# Altium footprint library PCB Footprints.PcbLib: 16 footprints
Each footprint in its own frame and in the unit in brackets; x right, y up, seen from the top. Pads: shape width x height; smd on the part's side, far side on the other; paste and mask are expansions set on the pad; w line width, h text height; cw(c..) or ccw(c..) is an arc to the next point about the centre after c.
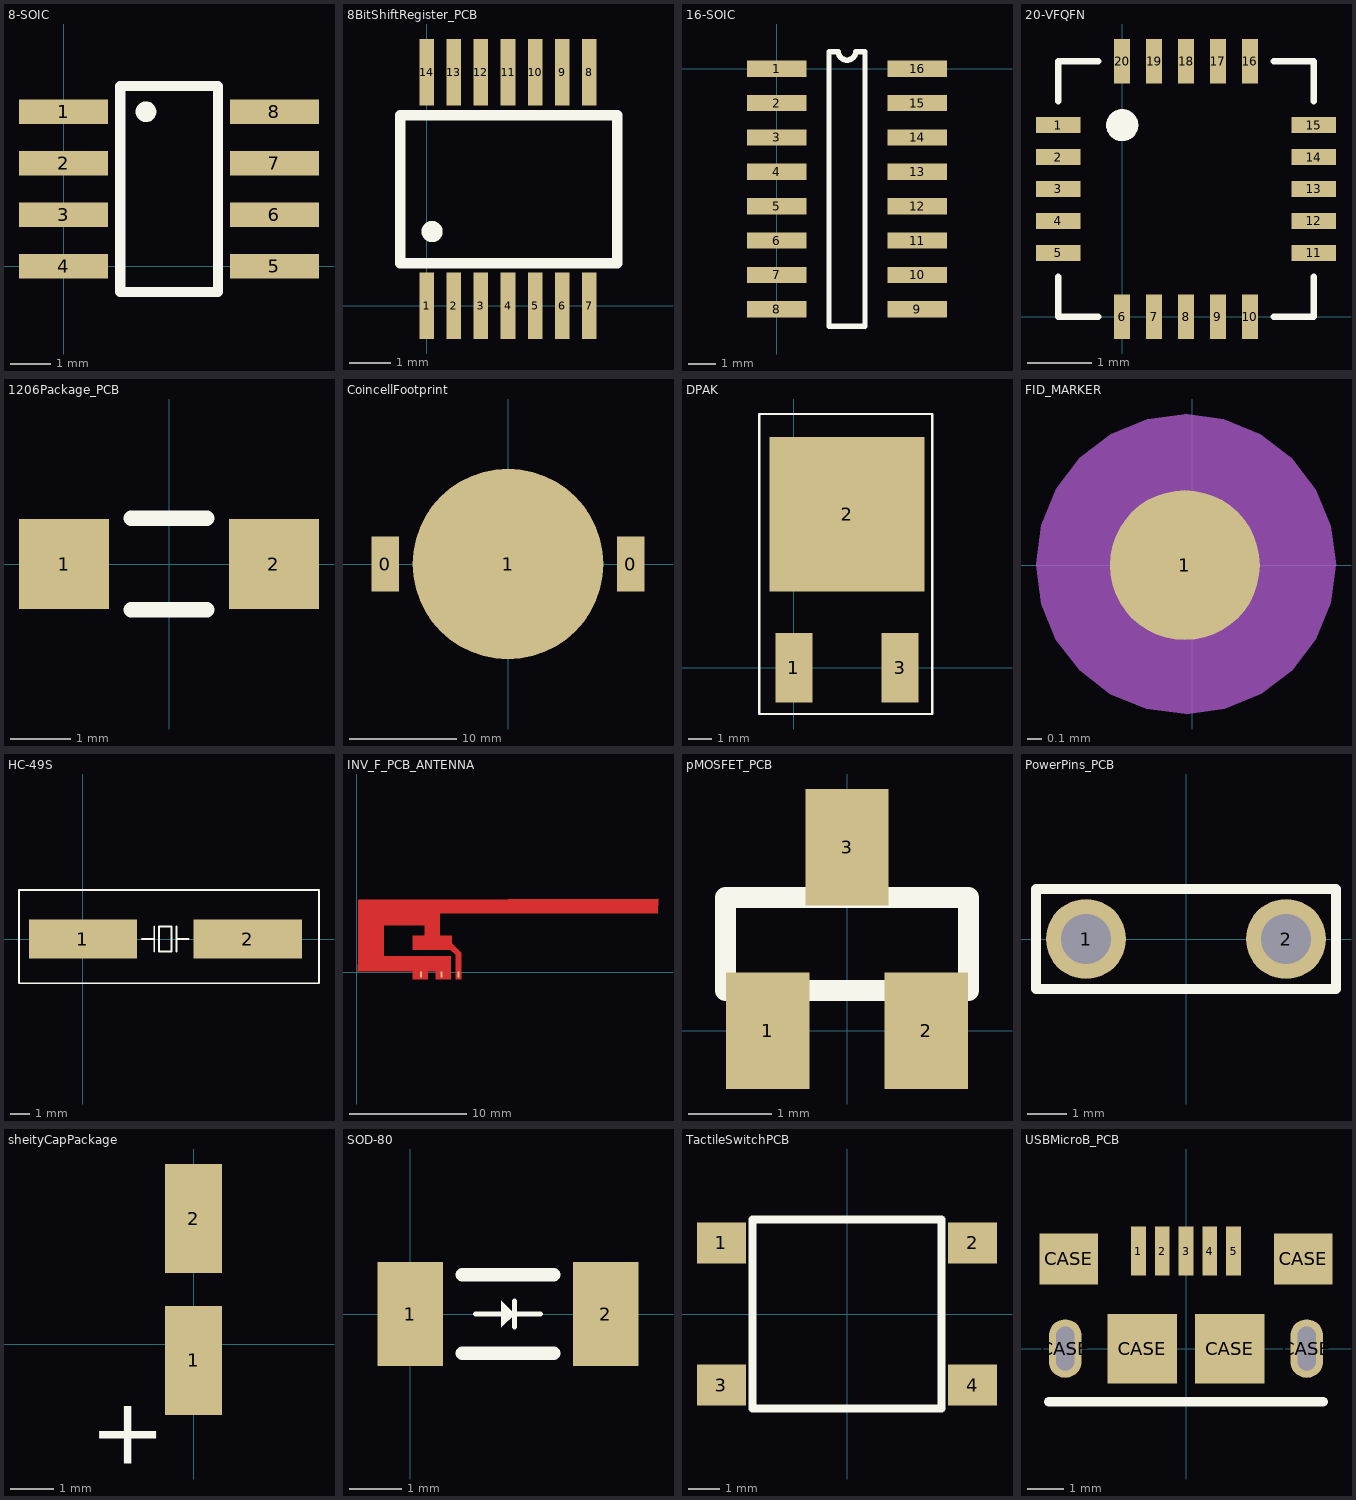
[diagram p0: the footprints below, top view; thin cyan lines are the x and y axes]

## 8-SOIC [mm]
pads (8):
  rect 2.2x0.6 smd: 1(0,3.81) 2(0,2.54) 3(0,1.27) 4(0,0) 5(5.2,0) 6(5.2,1.27) 7(5.2,2.54) 8(5.2,3.81)
Top Overlay:
  circle w0.254: c2.032,3.81 r0.127
  lines w0.254: 1.397,-0.635 1.397,4.445 3.81,4.445 3.81,-0.635 1.397,-0.635

## 8BitShiftRegister_PCB [mm]
pads (14):
  rect 0.35x1.6 smd: 1(0,0) 2(0.65,0) 3(1.3,0) 4(1.95,0) 5(2.6,0) 6(3.25,0) 7(3.9,0) 8(3.9,5.6) 9(3.25,5.6) 10(2.6,5.6) 11(1.95,5.6) 12(1.3,5.6) 13(0.65,5.6) 14(0,5.6)
Top Overlay:
  circle w0.254: c0.127,1.778 r0.127
  lines w0.254: -0.635,1.016 -0.635,4.572 4.572,4.572 4.572,1.016 -0.635,1.016

## 16-SOIC [mm]
pads (16):
  rect 2.2x0.6 smd: 1(0,0) 2(0,-1.27) 3(0,-2.54) 4(0,-3.81) 5(0,-5.08) 6(0,-6.35) 7(0,-7.62) 8(0,-8.89) 9(5.2,-8.89) 10(5.2,-7.62) 11(5.2,-6.35) 12(5.2,-5.08) 13(5.2,-3.81) 14(5.2,-2.54) 15(5.2,-1.27) 16(5.2,0)
Top Overlay:
  lines w0.2: 1.935,-9.525 1.935,0.635 2.282,0.635 ccw(c2.6,0.635) 2.917,0.635 3.265,0.635 3.265,-9.525 1.935,-9.525

## 20-VFQFN [mm] "The package"
height 0.75
pads (20):
  rect 0.7x0.25 smd: 1(-1,3) 2(-1,2.5) 3(-1,2) 4(-1,1.5) 5(-1,1) 11(3,1) 12(3,1.5) 13(3,2) 14(3,2.5) 15(3,3)
  rect 0.25x0.7 smd: 6(0,0) 7(0.5,0) 8(1,0) 9(1.5,0) 10(2,0) 16(2,4) 17(1.5,4) 18(1,4) 19(0.5,4) 20(0,4)
Top Overlay:
  circle w0.254: c0,3 r0.125
  lines w0.1: -1,0.625 -1,0 -0.375,0 ; -1,3.375 -1,4 -0.375,4 ; 2.375,0 3,0 3,0.625 ; 2.375,4 3,4 3,3.375

## 1206Package_PCB [mm]
height 1.1
pads (2):
  rect 1.5x1.5 smd: 1(-1.75,0) 2(1.75,0)
Top Overlay:
  lines w0.254: -0.635,-0.762 0.635,-0.762 ; -0.635,0.762 0.635,0.762

## CoincellFootprint [mm]
pads (3):
  rect 2.54x5.08 smd: 0(-11.43,0) 0(11.43,0)
  round 17.78 smd: 1(0,0)

## DPAK [mm]
height 1.5
pads (3):
  rect 1.6x3 smd: 1(0,0) 3(4.6,0)
  rect 6.7x6.7 smd: 2(2.3,6.65)
Top Overlay:
  lines w0.1: -1.5,-2 -1.5,11 6,11 6,-2 -1.5,-2

## FID_MARKER [mil]
pads (1):
  rrect100% 40x40 smd: 1(-2,0)
Top Solder:
  region: -41.71,0 -41.71,-0.01 -40.36,-10.28 -36.39,-19.86 -30.08,-28.08 -21.86,-34.39 -12.28,-38.36 -2.01,-39.71 -2,-39.71 -2,-39.67 -1.68,-39.71 8.68,-38.35 18.33,-34.35 26.62,-27.99 32.98,-19.7 36.98,-10.05 38.3,0 38.34,0 38.35,0.01 36.97,10.45 32.94,20.18 26.53,28.53 18.18,34.94 8.45,38.97 -1.99,40.35 -2,40.34 -2,40.3 -12.05,38.98 -21.7,34.98 -29.99,28.62 -36.35,20.33 -40.35,10.68 -41.71,0.32 -41.67,0
Mechanical 8:
  region: -41.71,0 -41.71,-0.01 -40.36,-10.28 -36.39,-19.86 -30.08,-28.08 -21.86,-34.39 -12.28,-38.36 -2.01,-39.71 -2,-39.71 -2,-39.67 -1.68,-39.71 8.68,-38.35 18.33,-34.35 26.62,-27.99 32.98,-19.7 36.98,-10.05 38.3,0 38.34,0 38.35,0.01 36.97,10.45 32.94,20.18 26.53,28.53 18.18,34.94 8.45,38.97 -1.99,40.35 -2,40.34 -2,40.3 -12.05,38.98 -21.7,34.98 -29.99,28.62 -36.35,20.33 -40.35,10.68 -41.71,0.32 -41.67,0

## HC-49S [mm]
pads (2):
  rect 5.5x2 smd: 1(0,0) 2(8.375,0)
Top Overlay:
  lines w0.1: 3,0 3.625,0 ; 3.625,-0.625 3.625,0 ; 3.625,0.625 3.625,0 ; 4.75,-0.625 4.75,0 ; 4.75,0.625 4.75,0 ; 5.375,0 4.75,0 ; -3.25,-2.25 12,-2.25 12,2.5 -3.25,2.5 -3.25,-2.25 ; 3.875,-0.625 3.875,0.625 4.5,0.625 4.5,-0.625 3.875,-0.625

## INV_F_PCB_ANTENNA [mm]
pads (3):
  rect 0.2x0.5 smd: 1(5.5,-0.2) 2(7.25,-0.2) 3(8.696,-0.2)
Top Layer:
  region: 0.126,0.043 0.128,0.038 0.133,0.036 4.81,0.047 4.81,-0.598 4.812,-0.603 4.817,-0.605 4.817,-0.604 6.077,-0.602 6.082,-0.6 6.085,-0.595 6.084,-0.595 6.084,0.05 6.775,0.052 6.775,-0.593 6.777,-0.598 6.782,-0.6 8.016,-0.597 8.021,-0.595 8.023,-0.59 8.023,-0.033 8.024,1.343 8.021,1.349 8.016,1.351 8.016,1.35 2.32,1.337 2.32,3.977 5.81,3.985 5.81,3.109 4.817,3.107 4.812,3.105 4.81,3.1 4.81,1.897 4.812,1.892 4.817,1.89 4.817,1.891 8.014,1.898 8.459,1.456 8.459,-0.589 8.461,-0.594 8.466,-0.596 8.926,-0.595 8.931,-0.593 8.933,-0.588 8.933,1.649 8.931,1.654 8.118,2.46 8.119,3.108 8.117,3.113 8.112,3.115 8.112,3.114 7.119,3.112 7.119,3.995 7.119,4.982 25.708,5.025 25.713,5.027 25.715,5.032 25.714,5.032 25.715,6.235 25.713,6.24 25.708,6.242 0.134,6.183 0.128,6.181 0.126,6.176 0.127,6.176 0.127,4.973 0.127,3.979 0.127,1.325

## pMOSFET_PCB [mm]
pads (3):
  rect 1x1.4 smd: 1(-0.95,0) 2(0.95,0) 3(0,2.2)
Top Overlay:
  lines w0.254: -1.46,0.484 1.46,0.484 1.46,1.6 -1.46,1.6 -1.46,0.484

## PowerPins_PCB [mil]
pads (2):
  round 80 hole 50: 1(-100,0) 2(100,0)
Top Overlay:
  lines w10: -150,-50 -150,50 150,50 150,-50 -150,-50

## sheityCapPackage [mm] "This is jank"
height 5.4
pads (2):
  rect 1.3x2.5 smd: 1(0,-0.375) 2(0,2.875)
Top Overlay:
  text "+" at -2.375,-2.75 h1.52

## SOD-80 [mm]
height 1
pads (2):
  rect 1.25x2 smd: 1(0,0) 2(3.75,0)
Top Overlay:
  region: 1.75,0.25 1.75,-0.25 2,0
  lines w0.1: 1.25,0 2.5,0 ; 2,-0.25 2,0.25
  lines w0.254: 1,-0.75 2.75,-0.75 ; 1,0.75 2.75,0.75

## TactileSwitchPCB [mm]
pads (4):
  rect 1.55x1.3 smd: 1(-3.975,2.25) 2(3.975,2.25) 3(-3.975,-2.25) 4(3.975,-2.25)
Top Overlay:
  lines w0.254: -3,-3 3,-3 3,3 -3,3 -3,-3

## USBMicroB_PCB [mm]
pads (11):
  rect 0.4x1.35 smd: 1(-1.3,2.667) 2(-0.65,2.667) 3(0,2.667) 4(0.65,2.667) 5(1.3,2.667)
  oval 0.9x1.6 hole 0.5 slot 1.2 at 90 deg: CASE(-3.3,0) CASE(3.3,0)
  rect 1.6x1.4 smd: CASE(-3.2,2.45) CASE(3.2,2.45)
  rect 1.9x1.9 smd: CASE(-1.2,0) CASE(1.2,0)
Top Overlay:
  lines w0.254: -3.75,-1.45 3.75,-1.45